# EAGLE library part AD7418 (library anton)
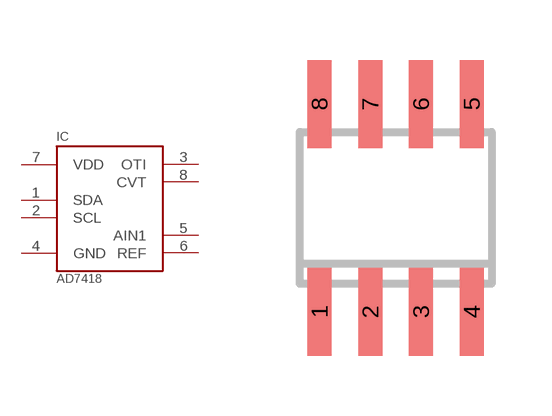
[diagram p14: symbol with the pads of SOIC8; footprint SOIC8]

Designator prefix IC

## AD7418  [SOIC8]
1  SDA
2  SCL  in
3  OTI  out
4  GND  pwr
5  AIN1  in
6  REF  in
7  VDD  pwr
8  CVT  in

## Footprint SOIC8 (pad centres in mm)
Small Outline IC
smd 0.6 x 2.2: 1 -1.905,-2.6; 2 -0.635,-2.6; 3 0.635,-2.6; 4 1.905,-2.6; 5 1.905,2.6; 6 0.635,2.6; 7 -0.635,2.6; 8 -1.905,2.6